# Altium integrated library Infineon_Power_Motor_Driver.IntLib: 100 symbols (part 6 of 7)
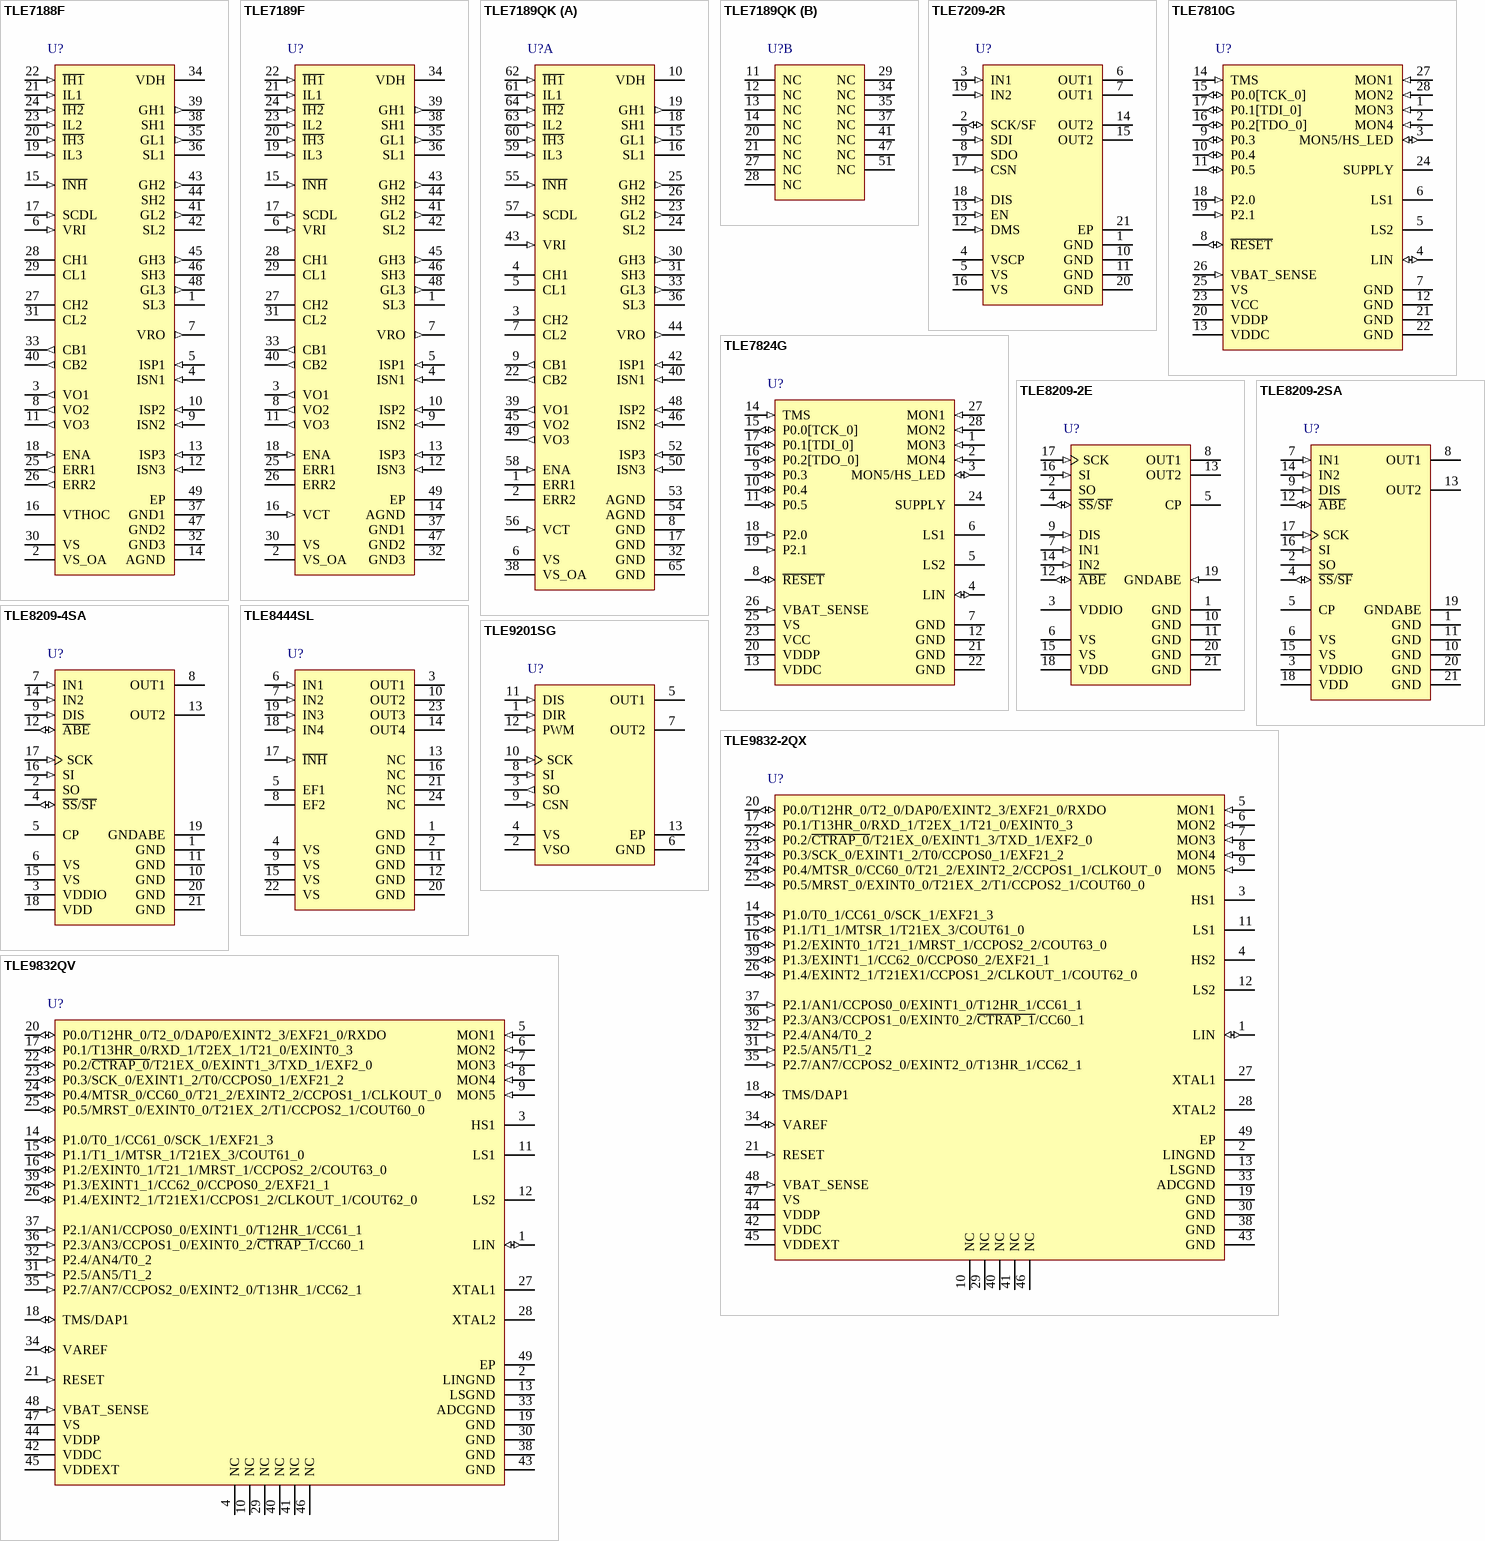
[diagram p9: symbols TLE7188F to TLE9832QV]

## TLE7189QK
designator U?
PRO-SIL(TM) 3-Phase Bridge Driver IC, 5.5 to 28 V, 30 uA Iq, -40 to 150 degC, PG-LQFP-64-17, Reel, Green; Manufacturer: Infineon; PartNumber: TLE7189QK; Adjustable dead time: FALSE; Adjustable short circuit detection: TRUE; D.C. Range @ 20kHz: 0...100%; Diagnosis: UV, OV, SCD, OT, VDD supervision; Iq: 30 uA; Integrated OPAMPs for load current measurement: 3; Turn on/off Current: 1.5 / 1.5 A; DatasheetVersion: Rev. 2.0; PackageVersion: Rev. 2.0, 07/2009; PackageReference: PG-LQFP-64-17; PackageDescription: 64-Pin Plastic (Green) Low Profile Quad Flat Package, Body 10 x 10 mm, Pitch 0.5 mm; Supplier 1: Mouser; Supplier Part Number 1: 726-TLE7189QK; Supplier 2: Digi-Key; Supplier Part Number 2: TLE7189QK-ND; Green: TRUE; Halogen-free: TRUE; Operating Range: 5.5 to 28 V; Packing: Reel; Mounting Technology: Surface Mount; Code_JEDEC: J-STD-020; ComponentLink1Description: Manufacturer URL; ComponentLink1URL: http://www.infineon.com/; ComponentLink2Description: Datasheet; ComponentLink2URL: http://www.infineon.com/dgdl/TLE7189QK_DS20.pdf?folderId=db3a30431ddc9372011e26863f92474e&fileId=db3a30432239cccd0122c1ca7b54599f&location=en.Products.Automotive_ICs.Motor_Drivers__Automotive_.Gate_Driver_ICs_for_external_MOSFETs.3-Phase_Bridge_Driver_IC_.DATASHEET.TLE7189QK_DS20.pdf; ComponentLink3Description: Package Specification; ComponentLink3URL: http://www.infineon.com/dgdl/TLE7189QK_DS20.pdf?folderId=db3a30431ddc9372011e26863f92474e&fileId=db3a30432239cccd0122c1ca7b54599f&sId=db3a30443e0c87a1013e11f7e1350d52
footprint INF-PG-LQFP-64-17_N (QFP, 64-Leads, Body 10x10mm, Pitch 0.5mm, Thermal Pad 6x6mm, IPC Medium Density)
footprint INF-PG-LQFP-64-17_L (QFP, 64-Leads, Body 10x10mm, Pitch 0.5mm, Thermal Pad 6x6mm, IPC High Density)
footprint INF-PG-LQFP-64-17_M (QFP, 64-Leads, Body 10x10mm, Pitch 0.5mm, Thermal Pad 6x6mm, IPC Low Density)
part A pins: 1 ERR1 (hiz) "Error signal 1", 2 ERR2 (hiz) "Error signal 2", 3 CH2 "+ terminal for pump capacitor of charge pump 2", 4 CH1 "+ terminal for pump capacitor of charge pump 1", 5 CL1 "- terminal for pump capacitor of charge pump 1", 6 VS (power) "Voltage supply", 7 CL2 "- terminal for pump capacitor of charge pump 2", 8 GND (power) "Logic and power ground", 9 CB1 (out) "Buffer capacitor for charge pump 1", 10 VDH (power) "Connection to drain of high side switches for short circuit detection", 15 GL1 (out) "Output to gate low side switch 1", 16 SL1 (power) "Connection to source low side switch 1", 17 GND (power) "Logic and power ground", 18 SH1 (power) "Connection to source high side switch 1", 19 GH1 (out) "Output to gate high side switch 1", 22 CB2 (out) "Buffer capacitor for charge pump 2", 23 GL2 (out) "Output to gate low side switch 2", 24 SL2 (power) "Connection to source low side switch 2", 25 GH2 (out) "Output to gate high side switch 2", 26 SH2 (power) "Connection to source high side switch 2", 30 GH3 (out) "Output to gate high side switch 3", 31 SH3 (power) "Connection to source high side switch 3", 32 GND (power) "Logic and power ground", 33 GL3 (out) "Output to gate low side switch 3", 36 SL3 (power) "Connection to source low side switch 3", 38 VS_OA (power) "Voltage supply I-DC Link OpAmps and voltage reference buffer / input for VCC check", 39 VO1 (out) "Output of OpAmp 1 for shunt signal amplification", 40 ISN1 (in) "- Input of OpAmp 1 for shunt signal amplification", 42 ISP1 (in) "+ Input of OpAmp 1 for shunt signal amplification", 43 VRI (in) "Input of bias reference amplifier", 44 VRO (out) "Output of bias reference amplifier", 45 VO2 (out) "Output of OpAmp 2 for shunt signal amplification", 46 ISN2 (in) "- Input of OpAmp 2 for shunt signal amplification", 48 ISP2 (in) "+ Input of OpAmp 2 for shunt signal amplification", 49 VO3 (out) "Output of OpAmp 3 for shunt signal amplification", 50 ISN3 (in) "- Input of OpAmp 3 for shunt signal amplification", 52 ISP3 (in) "+ Input of OpAmp 3 for shunt signal amplification", 53 AGND (power) "Analog ground especially for the current sense OpAmps", 54 AGND (power) "Analog ground especially for the current sense OpAmps", 55 ~{INH} (in) "Inhibit pin (active low)", 56 VCT (in) "Input pin for VCC check test", 57 SCDL (in) "Input pin to adjust short circuit detection level", 58 ENA (in) "Enable pin (active high)", 59 IL3 (in) "Input for low side switch 3 (active high)", 60 ~{IH3} (in) "Input for high side switch 3 (active low)", 61 IL1 (in) "Input for low side switch 1 (active high)", 62 ~{IH1} (in) "Input for high side switch 1 (active low)", 63 IL2 (in) "Input for low side switch 2 (active high)", 64 ~{IH2} (in) "Input for high side switch 2 (active low)", 65 GND (power) "Should be connected to GND"
part B pins: 11 NC "Not connected", 12 NC "Not connected", 13 NC "Not connected", 14 NC "Not connected", 20 NC "Not connected", 21 NC "Not connected", 27 NC "Not connected", 28 NC "Not connected", 29 NC "Not connected", 34 NC "Not connected", 35 NC "Not connected", 37 NC "Not connected", 41 NC "Not connected", 47 NC "Not connected", 51 NC "Not connected"

## TLE7209-2R
designator U?
7 A H-Bridge for DC-Motor Applications, 5 to 28 V, 150 mOhm RDS(on), PG-DSO-20-37, Reel, Green; Manufacturer: Infineon; PartNumber: TLE7209-2R; Current Limit (min.): 5.5 A; Green: TRUE; Operating Range: 5 to 28 V; Quiescent Current (max.): 20 mA; RthJC (max): 1.5 K/W; DatasheetVersion: Rev. 1.5; PackageReference: PG-DSO-20-37; PackageDescription: 20-Pin Plastic (Green) Dual Small Outline Package, 15.9 x 11 mm Body, 1.27 mm Pitch; Supplier 1: Mouser; Supplier Part Number 1: 726-TLE72092R; Supplier 2: Digi-Key; Supplier Part Number 2: TLE7209-2R-ND; Halogen-free: TRUE; Packing: Reel; RDS (on) (typ./switch): 150 mOhm; Mounting Technology: Surface Mount; ComponentLink1Description: Manufacturer URL; ComponentLink1URL: http://www.infineon.com/; ComponentLink2Description: Datasheet; ComponentLink2URL: http://www.infineon.com/dgdl/TLE7209-2R-Data+Sheet-Infineon-v15.pdf?folderId=db3a30431b3e89eb011bb632994f065b&fileId=db3a30431f848401011fc76ca8e77a06&sId=db3a30443d67b5ca013d7f7d1d1f2bb3; ComponentLink3Description: Package Specification; ComponentLink3URL: http://www.infineon.com/cms/packages/SMD_-_Surface_Mounted_Devices/P-PG-DSO/P-PG-DSO-20-10x_-12x_-13x_-16x_-33x_-34x_-37x_-48x_-50.html?__locale=en
footprint INF-PG-DSO-20-37_N (SOP, 20-Leads, Body 15.9x11mm, Pitch 1.27mm, Thermal Pad 15.84x6mm, IPC Medium Density)
footprint INF-PG-DSO-20-37_L (SOP, 20-Leads, Body 15.9x11mm, Pitch 1.27mm, Thermal Pad 15.84x6mm, IPC High Density)
footprint INF-PG-DSO-20-37_M (SOP, 20-Leads, Body 15.9x11mm, Pitch 1.27mm, Thermal Pad 15.84x6mm, IPC Low Density)
pins: 1 GND (power) "Ground", 2 SCK/SF (io) "SPI-Clock/Status-flag", 3 IN1 (in) "Input 1", 4 VSCP (power) "Supply voltage for internal charge pump", 5 VS (power) "Supply voltage; connect pins externally", 6 OUT1 (power) "Output 1; connect pins externally", 7 OUT1 (power) "Output 1; connect pins externally", 8 SDO (hiz) "Serial data out", 9 SDI (in) "Serial data in", 10 GND (power) "Ground", 11 GND (power) "Ground", 12 DMS (in) "Diagnostic-Mode selection (+ Supply voltage for SPI-Interface)", 13 EN (in) "Enable", 14 OUT2 (power) "Output 2; connect pins externally", 15 OUT2 (power) "Output 2; connect pins externally", 16 VS (power) "Supply voltage; connect pins externally", 17 CSN (in) "Chip Select (low active)", 18 DIS (in) "Disable", 19 IN2 (in) "Input 2", 20 GND (power) "Ground", 21 EP (power)

## TLE7810G
designator U?
Integrated Double Low-Side Switch, High-Side / LED Driver, 1 High Side Switch, 8 GPIO, PG-DSO-28-21, Reel, Green; Manufacturer: Infineon; PartNumber: TLE7810G; GPIO: 8; Frequency (f): 24 MHz; Green: TRUE; SOLID FLASH: 16 kByte; DatasheetVersion: Rev. 3.01; PackageVersion: Apr-08; PackageReference: PG-DSO-28-21; PackageDescription: 28-Pin Plastic (Green) Dual Small Outline Package, 17.9 x 7.5 mm Body, 1.27 mm Pitch; Supplier 1: Mouser; Supplier Part Number 1: 726-TLE7810G; Supplier 2: Digi-Key; Supplier Part Number 2: TLE7810G-ND; Halogen-free: TRUE; Packing: Reel; Mounting Technology: Surface Mount; ComponentLink1Description: Manufacturer URL; ComponentLink1URL: http://www.infineon.com/; ComponentLink2Description: Datasheet; ComponentLink2URL: http://www.infineon.com/dgdl/TLE7810_Final+DS_V3_01.pdf?folderId=db3a304318a6cd680118e6147df0134c&fileId=db3a30431936bc4b01195ccb31133270&sId=db3a30433da119ff013da2142ecd13f2; ComponentLink3Description: Package Specification; ComponentLink3URL: http://www.infineon.com/dgdl/TLE7810_Final+DS_V3_01.pdf?folderId=db3a304318a6cd680118e6147df0134c&fileId=db3a30431936bc4b01195ccb31133270&location=en.Products.Automotive_ICs.Embedded_Power_ICs_.DATASHEET.TLE7810_Final DS_V3_01.pdf
footprint INF-PG-DSO-28-21_N (SOP, 28-Leads, Body 17.9x7.5mm, Pitch 1.27mm, IPC Medium Density)
footprint INF-PG-DSO-28-21_L (SOP, 28-Leads, Body 17.9x7.5mm, Pitch 1.27mm, IPC High Density)
footprint INF-PG-DSO-28-21_M (SOP, 28-Leads, Body 17.9x7.5mm, Pitch 1.27mm, IPC Low Density)
pins: 1 MON3 (in) "Monitoring / Wake-Up Inputs; bi-level sensitive inputs used to monitor signals for example coming from an external switch panel", 2 MON4 (in) "Monitoring / Wake-Up Inputs; bi-level sensitive inputs used to monitor signals for example coming from an external switch panel", 3 MON5/HS_LED (io), 4 LIN (io) "LIN Bus; Bus Line for the LIN interface, according to ISO 9141 and LIN specification 1.3 and 2.0", 5 LS2 (power) "Low Side Switch 2 Output; controlled via SPI", 6 LS1 (power) "Low Side Switch 1 Output; controlled via SPI", 7 GND (power) "Ground; including GND for LSx and LIN", 8 ~{RESET} (io) "Reset; output of SBC; “low active? input for uController", 9 P0.3 (io), 10 P0.4 (io), 11 P0.5 (io), 12 GND (power) "Ground; corresponding GND to VDDC", 13 VDDC (power) "Voltage Regulator Output for uController Core (2.5 V); for connection of block capacitor to GND; not to be used for external loads", 14 TMS (in) "Test Mode Select (JTAG)", 15 P0.0[TCK_0] (io), 16 P0.2[TDO_0] (io), 17 P0.1[TDI_0] (io), 18 P2.0 (in), 19 P2.1 (in), 20 VDDP (power) "Voltage Supply Input for uController I/Os (5 V); to be connected with VCC pin", 21 GND (power) "Ground; VAGND (ADC) & corresponding GND to VDDP", 22 GND (power) "Ground; VAGND (ADC); also GND for LDO and Measurement Interface", 23 VCC (power) "Voltage Regulator Output; for internal supply (5 V); to stabilize block to GND with an external capacitor; for external loads up to the specified value (see Table 13 “Operating Range?on Page 35)", 24 SUPPLY (power) "Supply Output; e.g. for Hall Sensor; controlled via SPI", 25 VS (power) "Power Supply Input; recommendation to block to GND directly at the IC with ceramic capacitor (ferrite bead for better EMC behavior)", 26 VBAT_SENSE (in) "Battery Voltage Sense Input; for connection to terminal 30 with external serial resistor", 27 MON1 (in) "Monitoring / Wake-Up Inputs; bi-level sensitive inputs used to monitor signals for example coming from an external switch panel", 28 MON2 (in) "Monitoring / Wake-Up Inputs; bi-level sensitive inputs used to monitor signals for example coming from an external switch panel"

## TLE7824G
designator U?
Integrated Double Low-Side Switch, High-Side / LED Driver, 1 High Side Switch, 8 GPIO, PG-DSO-28-38, Reel, Green; Manufacturer: Infineon; PartNumber: TLE7824G; GPIO: 8; Frequency (f): 24 MHz; Green: TRUE; SOLID FLASH: 24 kByte; DatasheetVersion: Rev. 3.01; PackageVersion: Apr-08; PackageReference: PG-DSO-28-38; PackageDescription: 28-Pin Plastic (Green) Dual Small Outline Package, 17.9 x 7.5 mm Body, 1.27 mm Pitch; Supplier 1: Mouser; Supplier Part Number 1: 726-TLE7824G; Supplier 2: Digi-Key; Supplier Part Number 2: TLE7824G-ND; Halogen-free: TRUE; Packing: Reel; Mounting Technology: Surface Mount; ComponentLink1Description: Manufacturer URL; ComponentLink1URL: http://www.infineon.com/; ComponentLink2Description: Datasheet; ComponentLink2URL: http://www.infineon.com/dgdl/TLE7824_Final+DS_V3_01.pdf?folderId=db3a304318a6cd680118e6147df0134c&fileId=db3a30431936bc4b01195ccda5113276&location=en.Products.Automotive_ICs.Embedded_Power_ICs_.DATASHEET.TLE7824_Final DS_V3_01.pdf; ComponentLink3Description: Package Specification; ComponentLink3URL: http://www.infineon.com/dgdl/TLE7824_Final+DS_V3_01.pdf?folderId=db3a304318a6cd680118e6147df0134c&fileId=db3a30431936bc4b01195ccda5113276&location=en.Products.Automotive_ICs.Embedded_Power_ICs_.DATASHEET.TLE7824_Final DS_V3_01.pdf
footprint INF-PG-DSO-28-38_N (SOP, 28-Leads, Body 17.9x7.5mm, Pitch 1.27mm, IPC Medium Density)
footprint INF-PG-DSO-28-38_L (SOP, 28-Leads, Body 17.9x7.5mm, Pitch 1.27mm, IPC High Density)
footprint INF-PG-DSO-28-38_M (SOP, 28-Leads, Body 17.9x7.5mm, Pitch 1.27mm, IPC Low Density)
pins: 1 MON3 (in) "Monitoring / Wake-Up Inputs; bi-level sensitive inputs used to monitor signals for example coming from an external switch panel", 2 MON4 (in) "Monitoring / Wake-Up Inputs; bi-level sensitive inputs used to monitor signals for example coming from an external switch panel", 3 MON5/HS_LED (io), 4 LIN (io) "LIN Bus; Bus Line for the LIN interface, according to ISO 9141 and LIN specification 1.3 and 2.0", 5 LS2 (power) "Low Side Switch 2 Output; controlled via SPI", 6 LS1 (power) "Low Side Switch 1 Output; controlled via SPI", 7 GND (power) "Ground; including GND for LSx and LIN", 8 ~{RESET} (io) "Reset; output of SBC; ¡°low active¡±; input for uController", 9 P0.3 (io), 10 P0.4 (io), 11 P0.5 (io), 12 GND (power) "Ground; corresponding GND to VDDC", 13 VDDC (power) "Voltage Regulator Output for uController Core (2.5 V); for connection of block capacitor to GND; not to be used for external loads", 14 TMS (in) "Test Mode Select (JTAG)", 15 P0.0[TCK_0] (io), 16 P0.2[TDO_0] (io), 17 P0.1[TDI_0] (io), 18 P2.0 (in), 19 P2.1 (in), 20 VDDP (power) "Voltage Supply Input for uController I/Os (5 V); to be connected with VCC pin", 21 GND (power) "Ground; VAGND (ADC) & corresponding GND to VDDP", 22 GND (power) "Ground; VAGND (ADC); also GND for LDO and Measurement Interface", 23 VCC (power) "Voltage Regulator Output; for internal supply (5 V); to stabilize block to GND with an external capacitor; for external loads up to the specified value (see Table 13 "Operating Range" on Page 35)", 24 SUPPLY (power) "Supply Output; e.g. for Hall Sensor; controlled via SPI", 25 VS (power) "Power Supply Input; recommendation to block to GND directly at the IC with ceramic capacitor (ferrite bead for better EMC behavior)", 26 VBAT_SENSE (in) "Battery Voltage Sense Input; for connection to terminal 30 with external serial resistor", 27 MON1 (in) "Monitoring / Wake-Up Inputs; bi-level sensitive inputs used to monitor signals for example coming from an external switch panel", 28 MON2 (in) "Monitoring / Wake-Up Inputs; bi-level sensitive inputs used to monitor signals for example coming from an external switch panel"

## TLE8209-2E
designator U?
SPI Programmable H-Bridge, -40 to 150 degC, PG-DSO-20-71, Reel, Green; Manufacturer: Infineon; PartNumber: TLE8209-2E; Green: TRUE; Quiescent Current (max.): 20 uA; DatasheetVersion: Rev. 1.2; PackageVersion: Dec-12; PackageReference: PG-DSO-20-71; PackageDescription: 20-Pin Plastic (Green) Dual Small Outline Package, 12.7 x 7.5 mm Body, 1.27 mm Pitch; Supplier 1: Mouser; Supplier Part Number 1: N/A; Halogen-free: TRUE; Packing: Reel; Mounting Technology: Surface Mount; ComponentLink1Description: Manufacturer URL; ComponentLink1URL: http://www.infineon.com/; ComponentLink2Description: Datasheet; ComponentLink2URL: http://www.infineon.com/dgdl/TLE8209-2_DS_12.pdf?folderId=db3a304412b407950112b408e8c90004&fileId=db3a304327b897500128253bffb06f8a; ComponentLink3Description: Package Specification; ComponentLink3URL: http://www.infineon.com/dgdl/TLE8209-2_DS_12.pdf?folderId=db3a304412b407950112b408e8c90004&fileId=db3a304327b897500128253bffb06f8a&sId=db3a30433f2e70c5013f3d1450b13af2
footprint INF-PG-DSO-20-71_N (SOIC, 20-Leads, Body 12.7x7.5mm, Pitch 1.27mm, Thermal Pad 7x4.8mm, IPC Medium Density)
footprint INF-PG-DSO-20-71_L (SOIC, 20-Leads, Body 12.7x7.5mm, Pitch 1.27mm, Thermal Pad 7x4.8mm, IPC High Density)
footprint INF-PG-DSO-20-71_M (SOIC, 20-Leads, Body 12.7x7.5mm, Pitch 1.27mm, Thermal Pad 7x4.8mm, IPC Low Density)
pins: 1 GND (power) "Ground", 2 SO (hiz), 3 VDDIO (power), 4 ~{SS}/~{SF} (io), 5 CP, 6 VS (power) "Battery Supply Voltage, has to be connected to pin 15", 7 IN1 (in) "Input 1", 8 OUT1 (hiz) "Output 1", 9 DIS (in) "Disable", 10 GND (power) "Ground", 11 GND (power) "Ground", 12 ~{ABE} (io) "Bidirectional Enable Pin", 13 OUT2 (hiz) "Output 2", 14 IN2 (in) "Input 2", 15 VS (power) "Input battery supply voltage, has to be connected to pin 6", 16 SI (in), 17 SCK (in), 18 VDD (power) "VDD supply", 19 GNDABE (in) "Sense ground for V DD monitoring", 20 GND (power) "Ground", 21 GND (power) "Heatslug - connect to GND"

## TLE8209-2SA
designator U?
SPI Programmable H-Bridge, 4.5 to 28 V, 125 mOhm RDS(on), PG-DSO-20-65, Reel, Green; Manufacturer: Infineon; PartNumber: TLE8209-2SA; Current Limit (min.): 7.7 A; Green: TRUE; Quiescent Current (max.): 20 uA; RthJC (max): 1.6 K/W; DatasheetVersion: Rev. 1.2; PackageVersion: Oct-12; PackageReference: PG-DSO-20-65; PackageDescription: 20-Pin Plastic (Green) Dual Small Outline Package, 15.9 x 11 mm Body, 1.27 mm Pitch; Supplier 1: Mouser; Supplier Part Number 1: 726-TLE8209-2SA; Supplier 2: Digi-Key; Supplier Part Number 2: TLE8209-2SA-ND; Halogen-free: TRUE; Operating Range: 4.5 to 28 V; Packing: Reel; RDS (on) (typ./switch): 125 mOhm; Mounting Technology: Surface Mount; ComponentLink1Description: Manufacturer URL; ComponentLink1URL: http://www.infineon.com/; ComponentLink2Description: Datasheet; ComponentLink2URL: http://www.infineon.com/dgdl/TLE8209-2SA_DS_10.pdf?folderId=db3a304412b407950112b408e8c90004&fileId=db3a304327b897500128253bffb06f8a&location=en.Products.Automotive_ICs.Powertrain_ICs.Powertrain_H-Bridges_for_Electronic_Throttle_Control.DATASHEET.TLE8209-2SA_DS_10.pdf; ComponentLink3Description: Package Specification; ComponentLink3URL: http://www.infineon.com/dgdl/TLE8209-4SA_DS_11_2.pdf?folderId=db3a30431b3e89eb011bb632994f065b&fileId=db3a30433a747525013ac00f5f6d54f1&location=en.Products.Automotive_ICs.Powertrain_ICs.Powertrain_H-Bridges_for_Electronic_Throttle_Control.DATASHEET.TLE8209-4SA_DS_11_2.pdf
footprint INF-PG-DSO-20-65_N (SOP, 20-Leads, Body 15.9x11mm, Pitch 1.27mm, Thermal Pad 16.05x6mm, IPC Medium Density)
footprint INF-PG-DSO-20-65_L (SOP, 20-Leads, Body 15.9x11mm, Pitch 1.27mm, Thermal Pad 16.05x6mm, IPC High Density)
footprint INF-PG-DSO-20-65_M (SOP, 20-Leads, Body 15.9x11mm, Pitch 1.27mm, Thermal Pad 16.05x6mm, IPC Low Density)
pins: 1 GND (power) "Ground", 2 SO (hiz) "SPI Serial Data Out,no function - connect to GND", 3 VDDIO (power) "Supply Voltage for Logic Output Buffer,Switches to SF-mode if connected to GND", 4 ~{SS}/~{SF} (io) "Slave Select (low active),Status Flag (low active)", 5 CP "Pin for external Charge Pump Capacitor", 6 VS (power) "Battery Supply Voltage, has to be connected to pin 15", 7 IN1 (in) "Input 1", 8 OUT1 (power) "Output 1", 9 DIS (in) "Disable", 10 GND (power) "Ground", 11 GND (power) "Ground", 12 ~{ABE} (io) "Bidirectional Enable Pin", 13 OUT2 (power) "Output 2", 14 IN2 (in) "Input 2", 15 VS (power) "Input battery supply voltage, has to be connected to pin 6", 16 SI (in) "SPI Serial Data Input,no function - connect to GND", 17 SCK (in) "SPI Clock, no function - connect to GND", 18 VDD (power) "VDD supply", 19 GNDABE (power) "Sense ground for VDD monitoring", 20 GND (power) "Ground", 21 GND (power) "Heatslug - connect to GND"

## TLE8209-4SA
designator U?
SPI Programmable H-Bridge, 4.5 to 28 V, 125 mOhm RDS (on), PG-DSO-20-65, Reel, Green; Manufacturer: Infineon; PartNumber: TLE8209-4SA; Current Limit (min.): 9 A; Green: TRUE; Quiescent Current (max.): 20 uA; RthJC (max): 1.6 K/W; DatasheetVersion: Rev. 1.1; PackageVersion: Oct-12; PackageReference: PG-DSO-20-65; PackageDescription: 20-Pin Plastic (Green) Dual Small Outline Package, 15.9 x 11 mm Body, 1.27 mm Pitch; Halogen-free: available; Operating Range: 4.5 to 28 V; Packing: Reel; RDS (on) (typ./switch): 125 mOhm; Mounting Technology: Surface Mount; ComponentLink1Description: Manufacturer URL; ComponentLink1URL: http://www.infineon.com/; ComponentLink2Description: Datasheet; ComponentLink2URL: http://www.infineon.com/dgdl/TLE8209-4SA_DS_11_2.pdf?folderId=db3a30431b3e89eb011bb632994f065b&fileId=db3a30433a747525013ac00f5f6d54f1&location=en.Products.Automotive_ICs.Powertrain_ICs.Powertrain_H-Bridges_for_Electronic_Throttle_Control.DATASHEET.TLE8209-4SA_DS_11_2.pdf; ComponentLink3Description: Package Specification; ComponentLink3URL: http://www.infineon.com/dgdl/TLE8209-4SA_DS_11_2.pdf?folderId=db3a30431b3e89eb011bb632994f065b&fileId=db3a30433a747525013ac00f5f6d54f1&location=en.Products.Automotive_ICs.Powertrain_ICs.Powertrain_H-Bridges_for_Electronic_Throttle_Control.DATASHEET.TLE8209-4SA_DS_11_2.pdf
footprint INF-PG-DSO-20-65_N (SOP, 20-Leads, Body 15.9x11mm, Pitch 1.27mm, Thermal Pad 16.05x6mm, IPC Medium Density)
footprint INF-PG-DSO-20-65_L (SOP, 20-Leads, Body 15.9x11mm, Pitch 1.27mm, Thermal Pad 16.05x6mm, IPC High Density)
footprint INF-PG-DSO-20-65_M (SOP, 20-Leads, Body 15.9x11mm, Pitch 1.27mm, Thermal Pad 16.05x6mm, IPC Low Density)
pins: 1 GND (power) "Ground", 2 SO (hiz) "SPI Serial Data Out,no function - connect to GND", 3 VDDIO (power) "Supply Voltage for Logic Output Buffer,Switches to SF-mode if connected to GND", 4 ~{SS}/~{SF} (io) "Slave Select (low active),Status Flag (low active)", 5 CP "Pin for external Charge Pump Capacitor", 6 VS (power) "Battery Supply Voltage, has to be connected to pin 15", 7 IN1 (in) "Input 1", 8 OUT1 (power) "Output 1", 9 DIS (in) "Disable", 10 GND (power) "Ground", 11 GND (power) "Ground", 12 ~{ABE} (io) "Bidirectional Enable Pin", 13 OUT2 (power) "Output 2", 14 IN2 (in) "Input 2", 15 VS (power) "Input battery supply voltage, has to be connected to pin 6", 16 SI (in) "SPI Serial Data Input,no function - connect to GND", 17 SCK (in) "SPI Clock, no function - connect to GND", 18 VDD (power) "VDD supply", 19 GNDABE (power) "Sense ground for VDD monitoring", 20 GND (power) "Ground", 21 GND (power) "Heatslug - connect to GND"

## TLE8444SL
designator U?
Quad Half-Bridge Driver IC, 1 uA Iq, 8 to 18 V, -40 to 150 degC, PG-SSOP-24, Reel, Green; Manufacturer: Infineon; PartNumber: TLE8444SL; Green: TRUE; Iq: 4 x 5 uA; Iq (typ): 1 uA; Operating Range (max): 18 V; Operating Range (min): 8 V; Protect: OT, OV, OL, OC; DatasheetVersion: Rev. 1.1; PackageVersion: Apr-10; PackageReference: PG-SSOP-24-7; PackageDescription: 24-Pin Plastic (Green) Shrink Small Outline Package, 8.65 x 3.9 mm Body, 0.65 mm Pitch; Supplier 1: Digi-Key; Supplier Part Number 1: TLE8444SL-ND; Supplier 2: Mouser; Supplier Part Number 2: 726-TLE8444SL; Halogen-free: TRUE; Inhibit: TRUE; Mounting: SMT; Packing: Reel; Technology: BCD; Mounting Technology: Surface Mount; ComponentLink1Description: Manufacturer URL; ComponentLink1URL: http://www.infineon.com/; ComponentLink2Description: Datasheet; ComponentLink2URL: http://www.infineon.com/dgdl/Final_DS_TLE8444SL_Jul2009_V1.10.pdf?folderId=db3a30431ff98815012060aedcd46179&fileId=db3a30431ff98815012060afb566617a; ComponentLink3Description: Package Specification; ComponentLink3URL: http://www.infineon.com/dgdl/PG-SSOP-24-5%2C-6%2C-7-Package_Overview.pdf?folderId=db3a304327b897500127f7a03f7d6554&fileId=db3a304327b89750012817aa493a1a04
footprint INF-PG-SSOP-24-7_N (SOP, 24-Leads, Body 8.65x3.9mm, Pitch 0.65mm, IPC Medium Density)
footprint INF-PG-SSOP-24-7_L (SOP, 24-Leads, Body 8.65x3.9mm, Pitch 0.65mm, IPC High Density)
footprint INF-PG-SSOP-24-7_M (SOP, 24-Leads, Body 8.65x3.9mm, Pitch 0.65mm, IPC Low Density)
pins: 1 GND (power) "Ground; Signal ground; All GND pins must be externally connected together to the common GND potential", 2 GND (power) "Ground; Signal ground; All GND pins must be externally connected together to the common GND potential", 3 OUT1 (power) "Power Output of Half-bridge 1; Short circuit protected; with integrated free-wheeling diodes", 4 VS (power) "Power Supply Voltage; All VS pins must be externally connected together to the Battery Voltage with Reverse protection Diode, buffer capacitance and Filter against EMC. See Application Diagram, Figure 18 and Figure 19 for (See Datasheet)", 5 EF1 (oc) "Error Flag 1 (Diagnosis Output); Open drain by default; Low = error", 6 IN1 (in) "Input Channel of Half-bridge 1; Controls OUT1, Non-inverting Intput with internal Pull Down", 7 IN2 (in) "Input Channel of Half-bridge 2; Controls OUT2, Inverting Input with internal Pull Up", 8 EF2 (oc) "Error Flag 2 (Diagnosis Output); Open drain by default; Low = error", 9 VS (power) "Power Supply Voltage; All VS pins must be externally connected together to the Battery Voltage with Reverse protection Diode, buffer capacitance and Filter against EMC. See Application Diagram, Figure 18 and Figure 19 for (See Datasheet)", 10 OUT2 (power) "Power Output of Half-bridge 2; Short circuit protected; with integrated free-wheeling diodes", 11 GND (power) "Ground; Signal ground; All GND pins must be externally connected together to the common GND potential", 12 GND (power) "Ground; Signal ground; All GND pins must be externally connected together to the common GND potential", 13 NC "Not Connected", 14 OUT4 (power) "Power Output of Half-bridge 4; Short circuit protected; with integrated free-wheeling diodes", 15 VS (power) "Power Supply Voltage; All VS pins must be externally connected together to the Battery Voltage with Reverse protection Diode, buffer capacitance and Filter against EMC. See Application Diagram, Figure 18 and Figure 19 for (See Datasheet)", 16 NC "Not Connected", 17 ~{INH} (in) "Inhibit Input; Low = Device in sleep mode", 18 IN4 (in) "Input Channel of Half-bridge 4; Controls OUT4, Inverting Input with internal Pull Up", 19 IN3 (in) "Input Channel of Half-bridge 3; Controls OUT3, Non-inverting Intput with internal Pull Down", 20 GND (power) "Ground; Signal ground; All GND pins must be externally connected together to the common GND potential", 21 NC "Not Connected", 22 VS (power) "Power Supply Voltage; All VS pins must be externally connected together to the Battery Voltage with Reverse protection Diode, buffer capacitance and Filter against EMC. See Application Diagram, Figure 18 and Figure 19 for (See Datasheet)", 23 OUT3 (power) "Power Output of Half-bridge 3; Short-circuit protected; with integrated free-wheeling diodes", 24 NC "Not Connected"

## TLE9201SG
designator U?
6 A H-Bridge with SPI, 5 to 28 V, 50 uA Iq, PG-DSO-12, Reel, Green; Manufacturer: Infineon; PartNumber: TLE9201SG; Diagnosis: SPI & Status Flag; Green: TRUE; ID(lim): 10 A; ID(lim) (min): 6 A; Inhibit: FALSE; Operating Range: 5 to 28 V; Protect: SC, OT, OC; RDS (on) (typ): 200 mOhm; DatasheetVersion: Rev. 1.0; PackageReference: PG-DSO-12-17; PackageDescription: 12-Pin Plastic (Green) Dual Small Outline Package, 7.5 x 6.4 mm Body, 1 mm Pitch; Supplier 1: Mouser; Supplier Part Number 1: N/A; Halogen-free: TRUE; Mounting: SMT; Packing: Reel; Mounting Technology: Surface Mount; ComponentLink1Description: Manufacturer URL; ComponentLink1URL: http://www.infineon.com/; ComponentLink2Description: Datasheet; ComponentLink2URL: http://www.infineon.com/dgdl/TLE9201SG_DS_10.pdf?folderId=db3a30431b3e89eb011bb632994f065b&fileId=db3a304345087709014518190f481cec; ComponentLink3Description: Package Specification; ComponentLink3URL: http://www.infineon.com/dgdl/TLE9201SG_DS_10.pdf?folderId=db3a30431b3e89eb011bb632994f065b&fileId=db3a304345087709014518190f481cec&ack=t
footprint INF-PG-DSO-12-17_N (SOP, 12-Leads, Body 7.6x6.5mm, Pitch 1mm, Thermal Pad 7.9x4.3mm, IPC Medium Density)
footprint INF-PG-DSO-12-17_L (SOP, 12-Leads, Body 7.6x6.5mm, Pitch 1mm, Thermal Pad 7.9x4.3mm, IPC High Density)
footprint INF-PG-DSO-12-17_M (SOP, 12-Leads, Body 7.6x6.5mm, Pitch 1mm, Thermal Pad 7.9x4.3mm, IPC Low Density)
pins: 1 DIR (in) "Direction input to define direction of the motor current", 2 VSO (power) "Supply pin for SO output. Connect to 5V or 3.3V depending on desired logic level", 3 SO (out) "SPI serial output", 4 VS (power) "Supply voltage", 5 OUT1 (power) "Output 1", 6 GND (power) "Ground", 7 OUT2 (power) "Output 2", 8 SI (in) "SPI serial input", 9 CSN (in) "SPI chip select (low active)", 10 SCK (in) "SPI clock input", 11 DIS (in) "Disable. Disables the outputs (all MOSFETS off)", 12 PWM (in) "Pulse width modulation input", 13 EP (power)

## TLE9832-2QX
designator U?
Microcontroller with LIN and Power Switches for Automotive Application, 2 High Side Switches, 11 GPIO, VQFN-48-29, Reel, Green; Manufacturer: Infineon; PartNumber: TLE9832-2QX; GPIO: 11; Frequency (f): 40 MHz; Green: TRUE; SOLID FLASH: 36 kByte; DatasheetVersion: Rev. 1.1; PackageVersion: Mar-12; PackageReference: VQFN-48-29; PackageDescription: 48-Pin Plastic (Green) Very Thin Profile Quad Flat Non Leaded Package, 7 x 7 mm Body, 0.5 mm Pitch; Halogen-free: TRUE; Packing: Reel; Mounting Technology: Surface Mount; ComponentLink1Description: Manufacturer URL; ComponentLink1URL: http://www.infineon.com/; ComponentLink2Description: Datasheet; ComponentLink2URL: http://www.infineon.com/dgdl/TLE9832-2-Data-Sheet-11-Infineon.pdf?folderId=db3a304316f66ee801178237ed131de3&fileId=db3a30433784a0400137a1c845733cec&location=en.Products.Automotive_ICs.Embedded_Power_ICs_.DATASHEET.TLE9832-2-Data-Sheet-11-Infineon.pdf; ComponentLink3Description: Package Specification; ComponentLink3URL: http://www.infineon.com/dgdl/TLE9832-2-Data-Sheet-11-Infineon.pdf?folderId=db3a304316f66ee801178237ed131de3&fileId=db3a30433784a0400137a1c845733cec&location=en.Products.Automotive_ICs.Embedded_Power_ICs_.DATASHEET.TLE9832-2-Data-Sheet-11-Infineon.pdf
footprint INF-VQFN-48-29_N (QFN, 48-Leads, Body 7x7mm, Pitch 0.5mm, Thermal Pad 5.2x5.2mm, IPC Medium Density)
footprint INF-VQFN-48-29_L (QFN, 48-Leads, Body 7x7mm, Pitch 0.5mm, Thermal Pad 5.2x5.2mm, IPC High Density)
footprint INF-VQFN-48-29_M (QFN, 48-Leads, Body 7x7mm, Pitch 0.5mm, Thermal Pad 5.2x5.2mm, IPC Low Density)
pins: 1 LIN (io) "LIN bus interface input/output", 2 LINGND (power) "LIN ground", 3 HS1 (power) "High Side Switch output 1", 4 HS2 (power) "High Side Switch output 2", 5 MON1 (in) "High Voltage Monitor Input 1", 6 MON2 (in) "High Voltage Monitor Input 2", 7 MON3 (in) "High Voltage Monitor Input 3", 8 MON4 (in) "High Voltage Monitor Input 4", 9 MON5 (in) "High Voltage Monitor Input 5", 10 NC "Not connected - can be connected to GND", 11 LS1 (power) "Low Side Switch output 1", 12 LS2 (power) "Low Side Switch output 2", 13 LSGND (power) "Low Side ground LS1, LS2", 14 P1.0/T0_1/CC61_0/SCK_1/EXF21_3 (io), 15 P1.1/T1_1/MTSR_1/T21EX_3/COUT61_0 (io), 16 P1.2/EXINT0_1/T21_1/MRST_1/CCPOS2_2/COUT63_0 (io), 17 P0.1/T13HR_0/RXD_1/T2EX_1/T21_0/EXINT0_3 (io), 18 TMS/DAP1 (io), 19 GND (power) "Core supply ground; analog supply ground", 20 P0.0/T12HR_0/T2_0/DAP0/EXINT2_3/EXF21_0/RXDO (io), 21 RESET (in) "Reset input, not available during Sleep Mode", 22 P0.2/~{CTRAP_0}/T21EX_0/EXINT1_3/TXD_1/EXF2_0 (io), 23 P0.3/SCK_0/EXINT1_2/T0/CCPOS0_1/EXF21_2 (io), 24 P0.4/MTSR_0/CC60_0/T21_2/EXINT2_2/CCPOS1_1/CLKOUT_0 (io), 25 P0.5/MRST_0/EXINT0_0/T21EX_2/T1/CCPOS2_1/COUT60_0 (io), 26 P1.4/EXINT2_1/T21EX1/CCPOS1_2/CLKOUT_1/COUT62_0 (io), 27 XTAL1 "External oscillator input", 28 XTAL2 "External oscillator output", 29 NC "Not connected - can be connected to GND", 30 GND (power) "Core supply ground; analog supply ground", 31 P2.5/AN5/T1_2 (in), 32 P2.4/AN4/T0_2 (in), 33 ADCGND (power) "Analog supply ground for ADC1", 34 VAREF (io) "5V ADC1 reference voltage", 35 P2.7/AN7/CCPOS2_0/EXINT2_0/T13HR_1/CC62_1 (in), 36 P2.3/AN3/CCPOS1_0/EXINT0_2/~{CTRAP_1}/CC60_1 (in), 37 P2.1/AN1/CCPOS0_0/EXINT1_0/T12HR_1/CC61_1 (in), 38 GND (power) "Core supply ground; analog supply ground", 39 P1.3/EXINT1_1/CC62_0/CCPOS0_2/EXF21_1 (io), 40 NC "Not connected - can be connected to GND", 41 NC "Not connected - can be connected to GND", 42 VDDC (power) "Core supply (1.5 V during Active Mode, 0.9 V during Stop Mode). Do not connect external loads. For buffer/bypass capacitor.", 43 GND (power) "Core supply ground; analog supply ground", 44 VDDP (power) "I/O port supply (5.0 V). Do not connect external loads. For buffer and bypass capacitors.", 45 VDDEXT (power) "External voltage supply output (5.0 V, 20 mA)", 46 NC "Not connected - can be connected to GND", 47 VS (power) "Battery supply input", 48 VBAT_SENSE (in) "Battery supply voltage sense input", 49 EP (power)

## TLE9832QV
designator U?
Microcontroller with LIN and Power Switches for Automotive Application, 1 High Side Switch, 11 GPIO, VQFN-48-22, Reel, Green; Manufacturer: Infineon; PartNumber: TLE9832QV; GPIO: 11; Frequency (f): 40 MHz; Green: TRUE; SOLID FLASH: 36 kByte; DatasheetVersion: Rev. 1.1; PackageVersion: Nov-10; PackageReference: VQFN-48-22; PackageDescription: 48-Pin Plastic (Green) Very Thin Profile Quad Flat Non Leaded Package, 7 x 7 mm Body, 0.5 mm Pitch; Halogen-free: TRUE; Packing: Reel; Mounting Technology: Surface Mount; ComponentLink1Description: Manufacturer URL; ComponentLink1URL: http://www.infineon.com/; ComponentLink2Description: Datasheet; ComponentLink2URL: http://www.infineon.com/dgdl/TLE9832-Data-Sheet-11-Infineon.pdf?folderId=db3a304316f66ee801178237ed131de3&fileId=db3a30433784a0400137a1ca25673cf1&location=en.Products.Automotive_ICs.Embedded_Power_ICs_.DATASHEET.TLE9832-Data-Sheet-11-Infineon.pdf; ComponentLink3Description: Package Specification; ComponentLink3URL: http://www.infineon.com/dgdl/PG-VQFN-48-15%2C-19%2C-20%2C-22%2C-24%2C-48%2C-51%2C-52%2C-53%2C-54%2C-55%2C-56%2C-57-Package_Overview.pdf?folderId=db3a304319c6f18c0119e80a8f2559bf&fileId=db3a304319c6f18c011a0b8b18c33200
footprint INF-VQFN-48-22_N (QFN, 48-Leads, Body 7x7mm, Pitch 0.5mm, Thermal Pad 5.2x5.2mm, IPC Medium Density)
footprint INF-VQFN-48-22_L (QFN, 48-Leads, Body 7x7mm, Pitch 0.5mm, Thermal Pad 5.2x5.2mm, IPC High Density)
footprint INF-VQFN-48-22_M (QFN, 48-Leads, Body 7x7mm, Pitch 0.5mm, Thermal Pad 5.2x5.2mm, IPC Low Density)
pins: 1 LIN (io) "LIN bus interface input/output", 2 LINGND (power) "LIN ground", 3 HS1 (power) "High Side Switch output 1", 4 NC "Not connected - leave pin open", 5 MON1 (in) "High Voltage Monitor Input 1", 6 MON2 (in) "High Voltage Monitor Input 2", 7 MON3 (in) "High Voltage Monitor Input 3", 8 MON4 (in) "High Voltage Monitor Input 4", 9 MON5 (in) "High Voltage Monitor Input 5", 10 NC "Not connected - can be connected to GND", 11 LS1 (power) "Low Side Switch output 1", 12 LS2 (power) "Low Side Switch output 2", 13 LSGND (power) "Low Side ground LS1, LS2", 14 P1.0/T0_1/CC61_0/SCK_1/EXF21_3 (io), 15 P1.1/T1_1/MTSR_1/T21EX_3/COUT61_0 (io), 16 P1.2/EXINT0_1/T21_1/MRST_1/CCPOS2_2/COUT63_0 (io), 17 P0.1/T13HR_0/RXD_1/T2EX_1/T21_0/EXINT0_3 (io), 18 TMS/DAP1 (io), 19 GND (power) "Core supply ground; analog supply ground", 20 P0.0/T12HR_0/T2_0/DAP0/EXINT2_3/EXF21_0/RXDO (io), 21 RESET (in) "Reset input, not available during Sleep Mode", 22 P0.2/~{CTRAP_0}/T21EX_0/EXINT1_3/TXD_1/EXF2_0 (io), 23 P0.3/SCK_0/EXINT1_2/T0/CCPOS0_1/EXF21_2 (io), 24 P0.4/MTSR_0/CC60_0/T21_2/EXINT2_2/CCPOS1_1/CLKOUT_0 (io), 25 P0.5/MRST_0/EXINT0_0/T21EX_2/T1/CCPOS2_1/COUT60_0 (io), 26 P1.4/EXINT2_1/T21EX1/CCPOS1_2/CLKOUT_1/COUT62_0 (io), 27 XTAL1 "External oscillator input", 28 XTAL2 "External oscillator output", 29 NC "Not connected - can be connected to GND", 30 GND (power) "Core supply ground; analog supply ground", 31 P2.5/AN5/T1_2 (in), 32 P2.4/AN4/T0_2 (in), 33 ADCGND (power) "Analog supply ground for ADC1", 34 VAREF (io) "5V ADC1 reference voltage", 35 P2.7/AN7/CCPOS2_0/EXINT2_0/T13HR_1/CC62_1 (in), 36 P2.3/AN3/CCPOS1_0/EXINT0_2/~{CTRAP_1}/CC60_1 (in), 37 P2.1/AN1/CCPOS0_0/EXINT1_0/T12HR_1/CC61_1 (in), 38 GND (power) "Core supply ground; analog supply ground", 39 P1.3/EXINT1_1/CC62_0/CCPOS0_2/EXF21_1 (io), 40 NC "Not connected - can be connected to GND", 41 NC "Not connected - can be connected to GND", 42 VDDC (power) "Core supply (1.5 V during Active Mode, 0.9 V during Stop Mode). Do not connect external loads. For buffer/bypass capacitor.", 43 GND (power) "Core supply ground; analog supply ground", 44 VDDP (power) "I/O port supply (5.0 V). Do not connect external loads. For buffer and bypass capacitors.", 45 VDDEXT (power) "External voltage supply output (5.0 V, 20 mA)", 46 NC "Not connected - can be connected to GND", 47 VS (power) "Battery supply input", 48 VBAT_SENSE (in) "Battery supply voltage sense input", 49 EP (power)

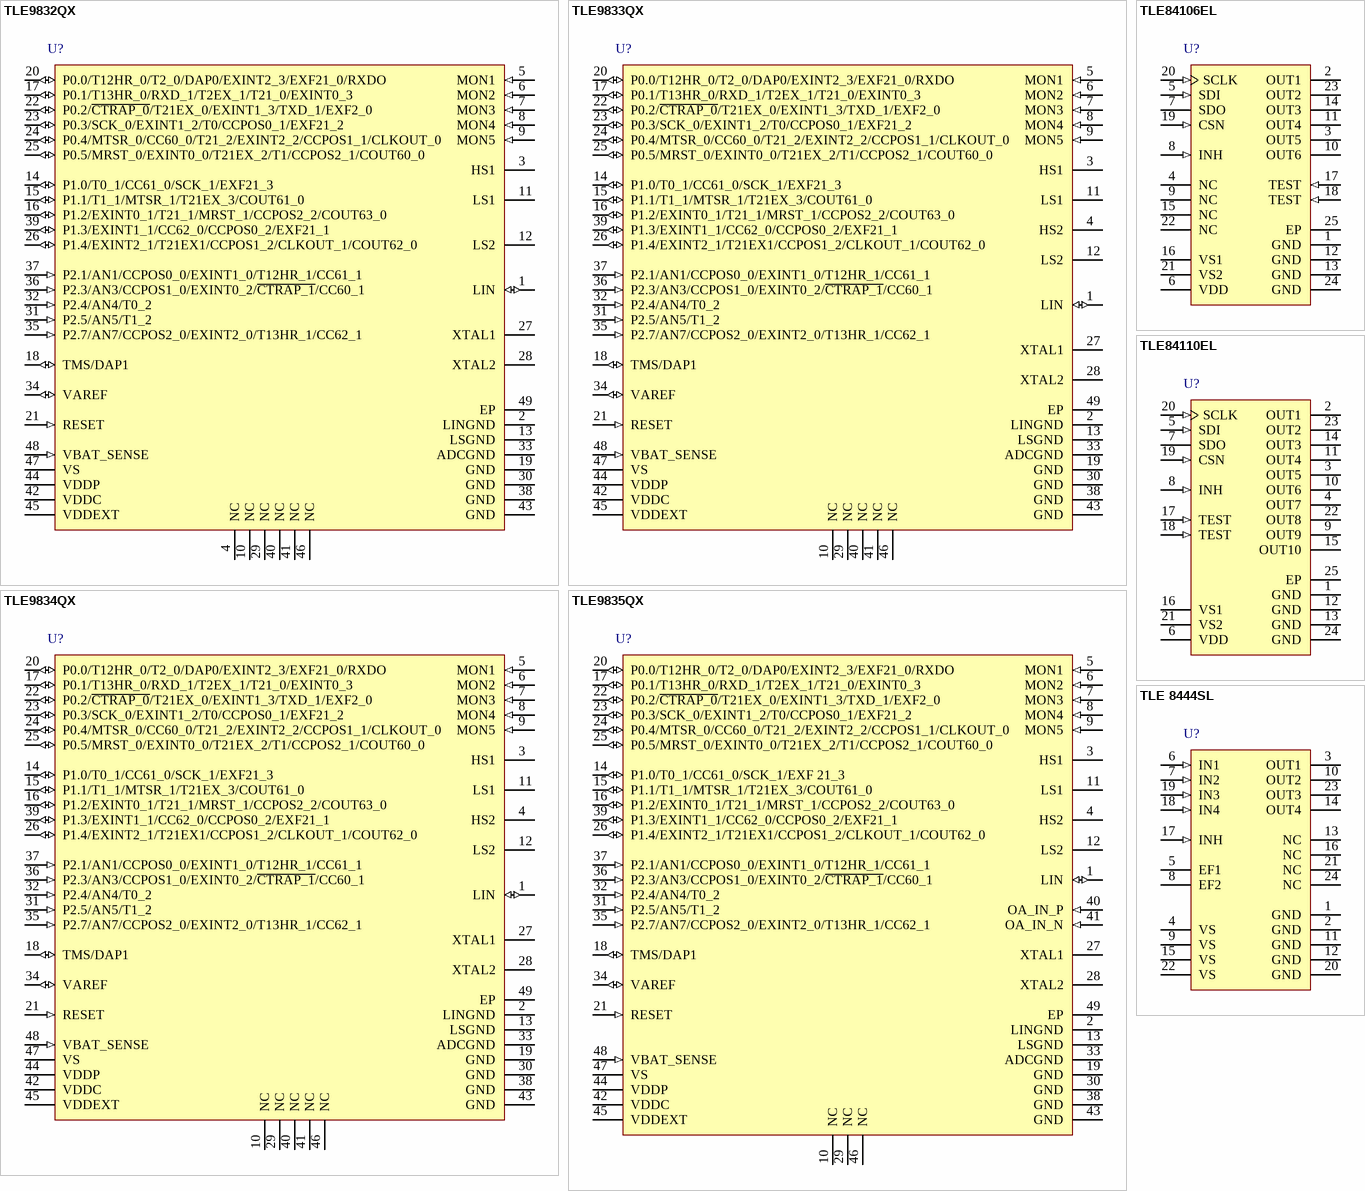
[diagram p4: symbols TLE9832QX to TLE 8444SL]

## TLE9832QX
designator U?
Microcontroller with LIN and Power Switches for Automotive Application, 1 High Side Switch, 11 GPIO, VQFN-48-29, Reel, Green; Manufacturer: Infineon; PartNumber: TLE9832QX; GPIO: 11; Frequency (f): 40 MHz; Green: TRUE; SOLID FLASH: 36 kByte; DatasheetVersion: Rev. 1.1; PackageVersion: Mar-12; PackageReference: VQFN-48-29; PackageDescription: 48-Pin Plastic (Green) Very Thin Profile Quad Flat Non Leaded Package, 7 x 7 mm Body, 0.5 mm Pitch; Halogen-free: TRUE; Packing: Reel; Mounting Technology: Surface Mount; ComponentLink1Description: Manufacturer URL; ComponentLink1URL: http://www.infineon.com/; ComponentLink2Description: Datasheet; ComponentLink2URL: http://www.infineon.com/dgdl/TLE9832-Data-Sheet-11-Infineon.pdf?folderId=db3a304316f66ee801178237ed131de3&fileId=db3a30433784a0400137a1ca25673cf1&location=en.Products.Automotive_ICs.Embedded_Power_ICs_.DATASHEET.TLE9832-Data-Sheet-11-Infineon.pdf; ComponentLink3Description: Package Specification; ComponentLink3URL: http://www.infineon.com/dgdl/TLE9832-2-Data-Sheet-11-Infineon.pdf?folderId=db3a304316f66ee801178237ed131de3&fileId=db3a30433784a0400137a1c845733cec&location=en.Products.Automotive_ICs.Embedded_Power_ICs_.DATASHEET.TLE9832-2-Data-Sheet-11-Infineon.pdf
footprint INF-VQFN-48-29_N (QFN, 48-Leads, Body 7x7mm, Pitch 0.5mm, Thermal Pad 5.2x5.2mm, IPC Medium Density)
footprint INF-VQFN-48-29_L (QFN, 48-Leads, Body 7x7mm, Pitch 0.5mm, Thermal Pad 5.2x5.2mm, IPC High Density)
footprint INF-VQFN-48-29_M (QFN, 48-Leads, Body 7x7mm, Pitch 0.5mm, Thermal Pad 5.2x5.2mm, IPC Low Density)
pins: 1 LIN (io) "LIN bus interface input/output", 2 LINGND (power) "LIN ground", 3 HS1 (power) "High Side Switch output 1", 4 NC "Not connected - leave pin open", 5 MON1 (in) "High Voltage Monitor Input 1", 6 MON2 (in) "High Voltage Monitor Input 2", 7 MON3 (in) "High Voltage Monitor Input 3", 8 MON4 (in) "High Voltage Monitor Input 4", 9 MON5 (in) "High Voltage Monitor Input 5", 10 NC "Not connected - can be connected to GND", 11 LS1 (power) "Low Side Switch output 1", 12 LS2 (power) "Low Side Switch output 2", 13 LSGND (power) "Low Side ground LS1, LS2", 14 P1.0/T0_1/CC61_0/SCK_1/EXF21_3 (io), 15 P1.1/T1_1/MTSR_1/T21EX_3/COUT61_0 (io), 16 P1.2/EXINT0_1/T21_1/MRST_1/CCPOS2_2/COUT63_0 (io), 17 P0.1/T13HR_0/RXD_1/T2EX_1/T21_0/EXINT0_3 (io), 18 TMS/DAP1 (io), 19 GND (power) "Core supply ground; analog supply ground", 20 P0.0/T12HR_0/T2_0/DAP0/EXINT2_3/EXF21_0/RXDO (io), 21 RESET (in) "Reset input, not available during Sleep Mode", 22 P0.2/~{CTRAP_0}/T21EX_0/EXINT1_3/TXD_1/EXF2_0 (io), 23 P0.3/SCK_0/EXINT1_2/T0/CCPOS0_1/EXF21_2 (io), 24 P0.4/MTSR_0/CC60_0/T21_2/EXINT2_2/CCPOS1_1/CLKOUT_0 (io), 25 P0.5/MRST_0/EXINT0_0/T21EX_2/T1/CCPOS2_1/COUT60_0 (io), 26 P1.4/EXINT2_1/T21EX1/CCPOS1_2/CLKOUT_1/COUT62_0 (io), 27 XTAL1 "External oscillator input", 28 XTAL2 "External oscillator output", 29 NC "Not connected - can be connected to GND", 30 GND (power) "Core supply ground; analog supply ground", 31 P2.5/AN5/T1_2 (in), 32 P2.4/AN4/T0_2 (in), 33 ADCGND (power) "Analog supply ground for ADC1", 34 VAREF (io) "5V ADC1 reference voltage", 35 P2.7/AN7/CCPOS2_0/EXINT2_0/T13HR_1/CC62_1 (in), 36 P2.3/AN3/CCPOS1_0/EXINT0_2/~{CTRAP_1}/CC60_1 (in), 37 P2.1/AN1/CCPOS0_0/EXINT1_0/T12HR_1/CC61_1 (in), 38 GND (power) "Core supply ground; analog supply ground", 39 P1.3/EXINT1_1/CC62_0/CCPOS0_2/EXF21_1 (io), 40 NC "Not connected - can be connected to GND", 41 NC "Not connected - can be connected to GND", 42 VDDC (power) "Core supply (1.5 V during Active Mode, 0.9 V during Stop Mode). Do not connect external loads. For buffer/bypass capacitor.", 43 GND (power) "Core supply ground; analog supply ground", 44 VDDP (power) "I/O port supply (5.0 V). Do not connect external loads. For buffer and bypass capacitors.", 45 VDDEXT (power) "External voltage supply output (5.0 V, 20 mA)", 46 NC "Not connected - can be connected to GND", 47 VS (power) "Battery supply input", 48 VBAT_SENSE (in) "Battery supply voltage sense input", 49 EP (power)

## TLE9833QX
designator U?
Microcontroller with LIN and Power Switches for Automotive Application, 2 High Side Switches, 11 GPIO, VQFN-48-29, Reel, Green; Manufacturer: Infineon; PartNumber: TLE9833QX; GPIO: 11; Frequency (f): 40 MHz; Green: TRUE; SOLID FLASH: 48 kByte; DatasheetVersion: Rev. 1.1; PackageVersion: Mar-12; PackageReference: VQFN-48-29; PackageDescription: 48-Pin Plastic (Green) Very Thin Profile Quad Flat Non Leaded Package, 7 x 7 mm Body, 0.5 mm Pitch; Halogen-free: TRUE; Packing: Reel; Mounting Technology: Surface Mount; ComponentLink1Description: Manufacturer URL; ComponentLink1URL: http://www.infineon.com/; ComponentLink2Description: Datasheet; ComponentLink2URL: http://www.infineon.com/dgdl/TLE9833QX-Data-Sheet-11-Infineon.pdf?folderId=db3a304316f66ee801178237ed131de3&fileId=db3a30433784a0400137a1cd7f573d01&location=en.Products.Automotive_ICs.Embedded_Power_ICs_.DATASHEET.TLE9833QX-Data-Sheet-11-Infineon.pdf; ComponentLink3Description: Package Specification; ComponentLink3URL: http://www.infineon.com/dgdl/TLE9832-2-Data-Sheet-11-Infineon.pdf?folderId=db3a304316f66ee801178237ed131de3&fileId=db3a30433784a0400137a1c845733cec&location=en.Products.Automotive_ICs.Embedded_Power_ICs_.DATASHEET.TLE9832-2-Data-Sheet-11-Infineon.pdf
footprint INF-VQFN-48-29_N (QFN, 48-Leads, Body 7x7mm, Pitch 0.5mm, Thermal Pad 5.2x5.2mm, IPC Medium Density)
footprint INF-VQFN-48-29_L (QFN, 48-Leads, Body 7x7mm, Pitch 0.5mm, Thermal Pad 5.2x5.2mm, IPC High Density)
footprint INF-VQFN-48-29_M (QFN, 48-Leads, Body 7x7mm, Pitch 0.5mm, Thermal Pad 5.2x5.2mm, IPC Low Density)
pins: 1 LIN (io) "LIN bus interface input/output", 2 LINGND (power) "LIN ground", 3 HS1 (power) "High Side Switch output 1", 4 HS2 (power) "High Side Switch output 2", 5 MON1 (in) "High Voltage Monitor Input 1", 6 MON2 (in) "High Voltage Monitor Input 2", 7 MON3 (in) "High Voltage Monitor Input 3", 8 MON4 (in) "High Voltage Monitor Input 4", 9 MON5 (in) "High Voltage Monitor Input 5", 10 NC "Not connected - can be connected to GND", 11 LS1 (power) "Low Side Switch output 1", 12 LS2 (power) "Low Side Switch output 2", 13 LSGND (power) "Low Side ground LS1, LS2", 14 P1.0/T0_1/CC61_0/SCK_1/EXF21_3 (io), 15 P1.1/T1_1/MTSR_1/T21EX_3/COUT61_0 (io), 16 P1.2/EXINT0_1/T21_1/MRST_1/CCPOS2_2/COUT63_0 (io), 17 P0.1/T13HR_0/RXD_1/T2EX_1/T21_0/EXINT0_3 (io), 18 TMS/DAP1 (io), 19 GND (power) "Core supply ground; analog supply ground", 20 P0.0/T12HR_0/T2_0/DAP0/EXINT2_3/EXF21_0/RXDO (io), 21 RESET (in) "Reset input, not available during Sleep Mode", 22 P0.2/~{CTRAP_0}/T21EX_0/EXINT1_3/TXD_1/EXF2_0 (io), 23 P0.3/SCK_0/EXINT1_2/T0/CCPOS0_1/EXF21_2 (io), 24 P0.4/MTSR_0/CC60_0/T21_2/EXINT2_2/CCPOS1_1/CLKOUT_0 (io), 25 P0.5/MRST_0/EXINT0_0/T21EX_2/T1/CCPOS2_1/COUT60_0 (io), 26 P1.4/EXINT2_1/T21EX1/CCPOS1_2/CLKOUT_1/COUT62_0 (io), 27 XTAL1 "External oscillator input", 28 XTAL2 "External oscillator output", 29 NC "Not connected - can be connected to GND", 30 GND (power) "Core supply ground; analog supply ground", 31 P2.5/AN5/T1_2 (in), 32 P2.4/AN4/T0_2 (in), 33 ADCGND (power) "Analog supply ground for ADC1", 34 VAREF (io) "5V ADC1 reference voltage", 35 P2.7/AN7/CCPOS2_0/EXINT2_0/T13HR_1/CC62_1 (in), 36 P2.3/AN3/CCPOS1_0/EXINT0_2/~{CTRAP_1}/CC60_1 (in), 37 P2.1/AN1/CCPOS0_0/EXINT1_0/T12HR_1/CC61_1 (in), 38 GND (power) "Core supply ground; analog supply ground", 39 P1.3/EXINT1_1/CC62_0/CCPOS0_2/EXF21_1 (io), 40 NC "Not connected - can be connected to GND", 41 NC "Not connected - can be connected to GND", 42 VDDC (power) "Core supply (1.5 V during Active Mode, 0.9 V during Stop Mode). Do not connect external loads. For buffer/bypass capacitor.", 43 GND (power) "Core supply ground; analog supply ground", 44 VDDP (power) "I/O port supply (5.0 V). Do not connect external loads. For buffer and bypass capacitors.", 45 VDDEXT (power) "External voltage supply output (5.0 V, 20 mA)", 46 NC "Not connected - can be connected to GND", 47 VS (power) "Battery supply input", 48 VBAT_SENSE (in) "Battery supply voltage sense input", 49 EP (power)

## TLE9834QX
designator U?
Microcontroller with LIN and Power Switches for Automotive Application, 2 High Side Switches, 11 GPIO, VQFN-48-29, Reel, Green; Manufacturer: Infineon; PartNumber: TLE9834QX; GPIO: 11; Frequency (f): 40 MHz; Green: TRUE; SOLID FLASH: 64 kByte; DatasheetVersion: Rev. 1.1; PackageVersion: Mar-12; PackageReference: VQFN-48-29; PackageDescription: 48-Pin Plastic (Green) Very Thin Profile Quad Flat Non Leaded Package, 7 x 7 mm Body, 0.5 mm Pitch; Halogen-free: TRUE; Packing: Reel; Mounting Technology: Surface Mount; ComponentLink1Description: Manufacturer URL; ComponentLink1URL: http://www.infineon.com/; ComponentLink2Description: Datasheet; ComponentLink2URL: http://www.infineon.com/dgdl/TLE9834QX-Data-Sheet-11-Infineon.pdf?folderId=db3a304316f66ee801178237ed131de3&fileId=db3a30433784a0400137a1cfbe523d0b&location=en.Products.Automotive_ICs.Embedded_Power_ICs_.DATASHEET.TLE9834QX-Data-Sheet-11-Infineon.pdf; ComponentLink3Description: Package Specification; ComponentLink3URL: http://www.infineon.com/dgdl/TLE9832-2-Data-Sheet-11-Infineon.pdf?folderId=db3a304316f66ee801178237ed131de3&fileId=db3a30433784a0400137a1c845733cec&location=en.Products.Automotive_ICs.Embedded_Power_ICs_.DATASHEET.TLE9832-2-Data-Sheet-11-Infineon.pdf
footprint INF-VQFN-48-29_N (QFN, 48-Leads, Body 7x7mm, Pitch 0.5mm, Thermal Pad 5.2x5.2mm, IPC Medium Density)
footprint INF-VQFN-48-29_L (QFN, 48-Leads, Body 7x7mm, Pitch 0.5mm, Thermal Pad 5.2x5.2mm, IPC High Density)
footprint INF-VQFN-48-29_M (QFN, 48-Leads, Body 7x7mm, Pitch 0.5mm, Thermal Pad 5.2x5.2mm, IPC Low Density)
pins: 1 LIN (io) "LIN bus interface input/output", 2 LINGND (power) "LIN ground", 3 HS1 (power) "High Side Switch output 1", 4 HS2 (power) "High Side Switch output 2", 5 MON1 (in) "High Voltage Monitor Input 1", 6 MON2 (in) "High Voltage Monitor Input 2", 7 MON3 (in) "High Voltage Monitor Input 3", 8 MON4 (in) "High Voltage Monitor Input 4", 9 MON5 (in) "High Voltage Monitor Input 5", 10 NC "Not connected - can be connected to GND", 11 LS1 (power) "Low Side Switch output 1", 12 LS2 (power) "Low Side Switch output 2", 13 LSGND (power) "Low Side ground LS1, LS2", 14 P1.0/T0_1/CC61_0/SCK_1/EXF21_3 (io), 15 P1.1/T1_1/MTSR_1/T21EX_3/COUT61_0 (io), 16 P1.2/EXINT0_1/T21_1/MRST_1/CCPOS2_2/COUT63_0 (io), 17 P0.1/T13HR_0/RXD_1/T2EX_1/T21_0/EXINT0_3 (io), 18 TMS/DAP1 (io), 19 GND (power) "Core supply ground; analog supply ground", 20 P0.0/T12HR_0/T2_0/DAP0/EXINT2_3/EXF21_0/RXDO (io), 21 RESET (in) "Reset input, not available during Sleep Mode", 22 P0.2/~{CTRAP_0}/T21EX_0/EXINT1_3/TXD_1/EXF2_0 (io), 23 P0.3/SCK_0/EXINT1_2/T0/CCPOS0_1/EXF21_2 (io), 24 P0.4/MTSR_0/CC60_0/T21_2/EXINT2_2/CCPOS1_1/CLKOUT_0 (io), 25 P0.5/MRST_0/EXINT0_0/T21EX_2/T1/CCPOS2_1/COUT60_0 (io), 26 P1.4/EXINT2_1/T21EX1/CCPOS1_2/CLKOUT_1/COUT62_0 (io), 27 XTAL1 "External oscillator input", 28 XTAL2 "External oscillator output", 29 NC "Not connected - can be connected to GND", 30 GND (power) "Core supply ground; analog supply ground", 31 P2.5/AN5/T1_2 (in), 32 P2.4/AN4/T0_2 (in), 33 ADCGND (power) "Analog supply ground for ADC1", 34 VAREF (io) "5V ADC1 reference voltage", 35 P2.7/AN7/CCPOS2_0/EXINT2_0/T13HR_1/CC62_1 (in), 36 P2.3/AN3/CCPOS1_0/EXINT0_2/~{CTRAP_1}/CC60_1 (in), 37 P2.1/AN1/CCPOS0_0/EXINT1_0/T12HR_1/CC61_1 (in), 38 GND (power) "Core supply ground; analog supply ground", 39 P1.3/EXINT1_1/CC62_0/CCPOS0_2/EXF21_1 (io), 40 NC "Not connected - can be connected to GND", 41 NC "Not connected - can be connected to GND", 42 VDDC (power) "Core supply (1.5 V during Active Mode, 0.9 V during Stop Mode). Do not connect external loads. For buffer/bypass capacitor.", 43 GND (power) "Core supply ground; analog supply ground", 44 VDDP (power) "I/O port supply (5.0 V). Do not connect external loads. For buffer and bypass capacitors.", 45 VDDEXT (power) "External voltage supply output (5.0 V, 20 mA)", 46 NC "Not connected - can be connected to GND", 47 VS (power) "Battery supply input", 48 VBAT_SENSE (in) "Battery supply voltage sense input", 49 EP (power)